# Altium footprint library COMM_SCHPCB.PcbLib: 136 footprints (part 4 of 9)
Each footprint in its own frame and in the unit in brackets; x right, y up, seen from the top. Pads: shape width x height; smd on the part's side, far side on the other; paste and mask are expansions set on the pad; w line width, h text height; cw(c..) or ccw(c..) is an arc to the next point about the centre after c.
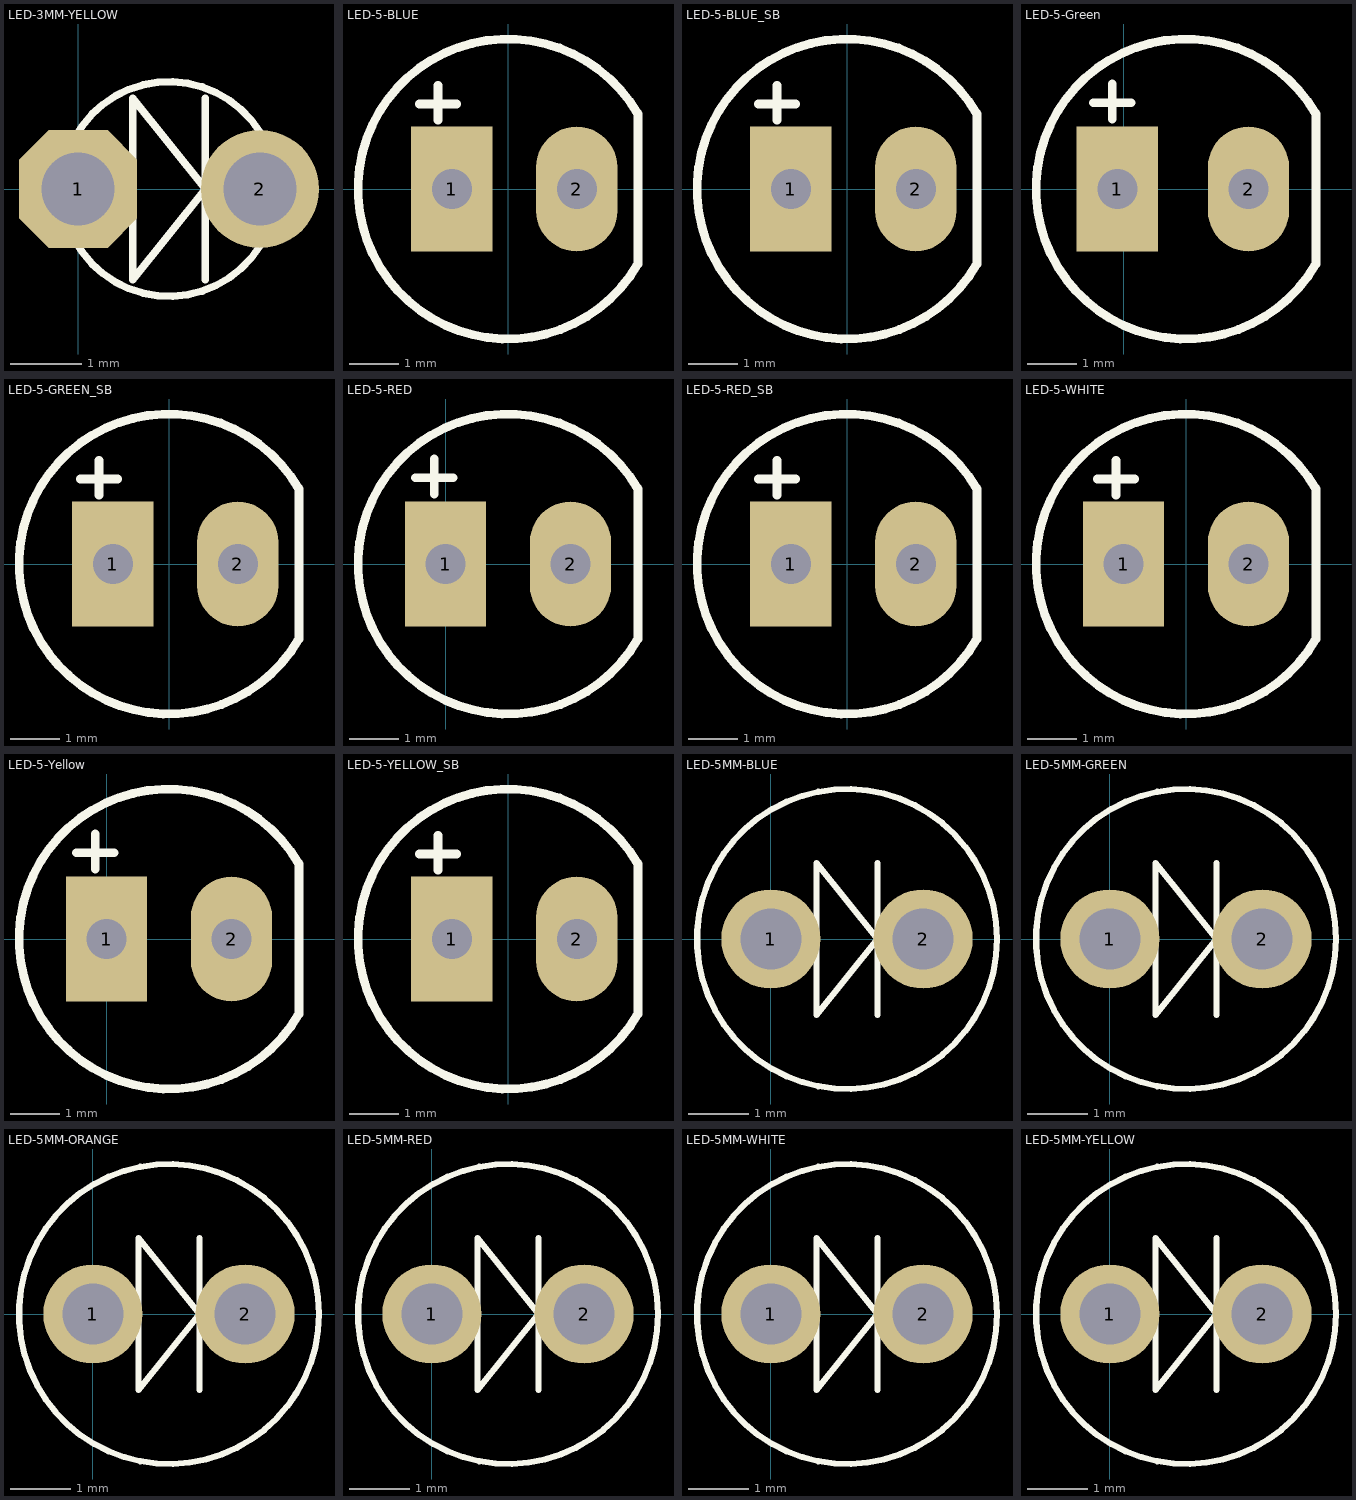
[diagram p3: the footprints below, top view; thin cyan lines are the x and y axes]

## LED-3MM-YELLOW [mil]
pads (2):
  oct 65x65 hole 40: 1(0,0)
  round 65 hole 40: 2(100,0)
Top Overlay:
  circle w4: c50,0 r59.06
  lines w4: 70,-50 70,0 ; 70,50 70,0 ; 70,0 30,-50 30,50 70,0
3D body "User Library-LED-D3Y.step": height 181.1, standoff -255.91, extent -27.18,-77.48 117.18,80

## LED-5-BLUE [mil] "LED 2 PIN, 5 ly , Only colour, pin to pin 110mil"
height 300
pads (2):
  rect 65x100 hole 32: 1(-45,0)
  oval 65x100 hole 32: 2(55,0)
Top Overlay:
  lines w7: -71,68 -41,68 ; -56,55 -56,83 ; 103.51,60.71 ccw(c0,0) 103.94,-59.97 ; 104,-59 104,60
3D body "User Library-LEDd5B.STEP": height 339.18, standoff -243.49, extent -113.31,-120.49 100.08,116.5

## LED-5-BLUE_SB [mil] "LED SIEU SANG, LUN 5MM"
height 300
pads (2):
  rect 65x100 hole 32: 1(-45,0)
  oval 65x100 hole 32: 2(55,0)
Top Overlay:
  lines w7: -71,68 -41,68 ; -56,55 -56,83 ; 103.51,60.71 ccw(c0,0) 103.94,-59.97 ; 104,-59 104,60
3D body "Blue straw hat led.step": height 216.54, standoff -531.5, extent -113.69,-114.17 102.36,114.17

## LED-5-Green [mil] "LED 2 PIN, 5 ly , Only colour,pin to pin 100mil"
height 300
pads (2):
  rect 65x100 hole 32: 1(-5,0)
  oval 65x100 hole 32: 2(100,0)
Top Overlay:
  lines w7: -24,69 6,69 ; -9,56 -9,84 ; 153.51,60.71 ccw(c50,0) 153.94,-59.97 ; 154,-59 154,60
3D body "SW3dPS-LEDd5G.STEP": height 339.18, standoff -243.49, extent -68.69,-119.99 144.69,117

## LED-5-GREEN_SB [mil] "LED SIEU SANG, LUN 5MM"
height 300
pads (2):
  rect 65x100 hole 32: 1(-45,0)
  oval 65x100 hole 32: 2(55,0)
Top Overlay:
  lines w7: -71,68 -41,68 ; -56,55 -56,83 ; 103.51,60.71 ccw(c0,0) 103.94,-59.97 ; 104,-59 104,60
3D body "Green straw hat led.step": height 216.54, standoff -531.5, extent -113.69,-114.17 102.36,114.17

## LED-5-RED [mil] "LED 2 PIN, 5 ly , Only colour,pin to pin 100mil"
height 300
pads (2):
  rect 65x100 hole 32: 1(0,0)
  oval 65x100 hole 32: 2(100,0)
Top Overlay:
  lines w7: -24,69 6,69 ; -9,56 -9,84 ; 153.51,60.71 ccw(c50,0) 153.94,-59.97 ; 154,-59 154,60
3D body "SW3dPS-LEDd5R.STEP": height 339.18, standoff -243.49, extent -64.69,-119 148.69,117.99

## LED-5-RED_SB [mil] "LED SIEU SANG, LUN 5MM"
height 300
pads (2):
  rect 65x100 hole 32: 1(-45,0)
  oval 65x100 hole 32: 2(55,0)
Top Overlay:
  lines w7: -71,68 -41,68 ; -56,55 -56,83 ; 103.51,60.71 ccw(c0,0) 103.94,-59.97 ; 104,-59 104,60
3D body "Red straw hat led.step": height 216.54, standoff -531.5, extent -113.69,-114.17 102.36,114.17

## LED-5-WHITE [mil] "LED 2 PIN, 5 ly , Only colour, pin to pin 110mil"
height 300
pads (2):
  rect 65x100 hole 32: 1(-50,0)
  oval 65x100 hole 32: 2(50,0)
Top Overlay:
  lines w7: -71,68 -41,68 ; -56,55 -56,83 ; 103.51,60.71 ccw(c0,0) 103.94,-59.97 ; 104,-59 104,60
3D body "5 mm yellow led.step": height 340.05, standoff -767.12, extent -124,-125 120.88,120.26

## LED-5-Yellow [mil] "LED 2 PIN, 5 ly , Only colour,pin to pin 100mil"
height 300
pads (2):
  rect 65x100 hole 32: 1(0,0)
  oval 65x100 hole 32: 2(100,0)
Top Overlay:
  lines w7: -24,69 6,69 ; -9,56 -9,84 ; 153.51,60.71 ccw(c50,0) 153.94,-59.97 ; 154,-59 154,60
3D body "SW3dPS-LEDd5O.STEP": height 339.18, standoff -243.49, extent -66.69,-121.99 146.69,115

## LED-5-YELLOW_SB [mil] "LED SIEU SANG, LUN 5MM"
height 300
pads (2):
  rect 65x100 hole 32: 1(-45,0)
  oval 65x100 hole 32: 2(55,0)
Top Overlay:
  lines w7: -71,68 -41,68 ; -56,55 -56,83 ; 103.51,60.71 ccw(c0,0) 103.94,-59.97 ; 104,-59 104,60
3D body "Yellow straw hat led.step": height 216.54, standoff -531.5, extent -113.69,-114.17 102.36,114.17

## LED-5MM-BLUE [mil]
pads (2):
  round 65 hole 40: 1(0,0) 2(100,0)
Top Overlay:
  circle w4: c50,0 r98.43
  lines w4: 70,-50 70,0 ; 70,50 70,0 ; 70,0 30,50 30,-50 70,0
3D body: height 50, standoff -120, extent 87,-12.5 112,12.5
3D body: height 150, standoff 50, extent -13,-13 30,12
3D body: height 150, standoff 50, extent 69,-12.5 112,12.5
3D body: height 160, standoff 150, extent 35,-33 90,33
3D body: height 60, standoff -120, extent -12.5,-13 12.5,12
3D body: height 160, standoff 150, extent 21,-7 30,7
3D body: height 170, standoff 160, extent 45,-5 55,5
3D body: height 270, standoff 70, extent -49,-100 150.21,99.61
3D body: height 370, standoff 170, extent -49,-100 149.96,99.15
3D body: height 110, standoff 70, extent -54.17,-105 155,104.59

## LED-5MM-GREEN [mil]
pads (2):
  round 65 hole 40: 1(0,0) 2(100,0)
Top Overlay:
  circle w4: c50,0 r98.43
  lines w4: 70,-50 70,0 ; 70,50 70,0 ; 70,0 30,50 30,-50 70,0
3D body: height 50, standoff -120, extent 87,-12.5 112,12.5
3D body: height 150, standoff 50, extent -13,-13 30,12
3D body: height 150, standoff 50, extent 69,-12.5 112,12.5
3D body: height 160, standoff 150, extent 35,-33 90,33
3D body: height 60, standoff -120, extent -12.5,-13 12.5,12
3D body: height 160, standoff 150, extent 21,-7 30,7
3D body: height 170, standoff 160, extent 45,-5 55,5
3D body: height 270, standoff 70, extent -49,-100 150.21,99.61
3D body: height 370, standoff 170, extent -49,-100 149.96,99.15
3D body: height 110, standoff 70, extent -54.17,-105 155,104.59

## LED-5MM-ORANGE [mil]
pads (2):
  round 65 hole 40: 1(0,0) 2(100,0)
Top Overlay:
  circle w4: c50,0 r98.43
  lines w4: 70,-50 70,0 ; 70,50 70,0 ; 70,0 30,50 30,-50 70,0
3D body: height 50, standoff -120, extent 87,-12.5 112,12.5
3D body: height 150, standoff 50, extent -13,-13 30,12
3D body: height 150, standoff 50, extent 69,-12.5 112,12.5
3D body: height 160, standoff 150, extent 35,-33 90,33
3D body: height 60, standoff -120, extent -12.5,-13 12.5,12
3D body: height 160, standoff 150, extent 21,-7 30,7
3D body: height 170, standoff 160, extent 45,-5 55,5
3D body: height 270, standoff 70, extent -49,-100 150.21,99.61
3D body: height 370, standoff 170, extent -49,-100 149.96,99.15
3D body: height 110, standoff 70, extent -54.17,-105 155,104.59

## LED-5MM-RED [mil]
pads (2):
  round 65 hole 40: 1(0,0) 2(100,0)
Top Overlay:
  circle w4: c50,0 r98.43
  lines w4: 70,-50 70,0 ; 70,50 70,0 ; 70,0 30,-50 30,50 70,0
3D body: height 110, standoff 70, extent -54.17,-105 155,104.59
3D body: height 370, standoff 170, extent -49,-100 149.96,99.15
3D body: height 270, standoff 70, extent -49,-100 150.21,99.61
3D body: height 170, standoff 160, extent 45,-5 55,5
3D body: height 160, standoff 150, extent 21,-7 30,7
3D body: height 60, standoff -120, extent -12.5,-13 12.5,12
3D body: height 160, standoff 150, extent 35,-33 90,33
3D body: height 150, standoff 50, extent 69,-12.5 112,12.5
3D body: height 150, standoff 50, extent -13,-13 30,12
3D body: height 50, standoff -120, extent 87,-12.5 112,12.5

## LED-5MM-WHITE [mil]
pads (2):
  round 65 hole 40: 1(0,0) 2(100,0)
Top Overlay:
  circle w4: c50,0 r98.43
  lines w4: 70,-50 70,0 ; 70,50 70,0 ; 70,0 30,50 30,-50 70,0
3D body: height 50, standoff -120, extent 87,-12.5 112,12.5
3D body: height 150, standoff 50, extent -13,-13 30,12
3D body: height 150, standoff 50, extent 69,-12.5 112,12.5
3D body: height 160, standoff 150, extent 35,-33 90,33
3D body: height 60, standoff -120, extent -12.5,-13 12.5,12
3D body: height 160, standoff 150, extent 21,-7 30,7
3D body: height 170, standoff 160, extent 45,-5 55,5
3D body: height 270, standoff 70, extent -49,-100 150.21,99.61
3D body: height 370, standoff 170, extent -49,-100 149.96,99.15
3D body: height 110, standoff 70, extent -54.17,-105 155,104.59

## LED-5MM-YELLOW [mil]
pads (2):
  round 65 hole 40: 1(0,0) 2(100,0)
Top Overlay:
  circle w4: c50,0 r98.43
  lines w4: 70,-50 70,0 ; 70,50 70,0 ; 70,0 30,-50 30,50 70,0
3D body: height 110, standoff 70, extent -54.17,-105 155,104.59
3D body: height 370, standoff 170, extent -49,-100 149.96,99.15
3D body: height 270, standoff 70, extent -49,-100 150.21,99.61
3D body: height 170, standoff 160, extent 45,-5 55,5
3D body: height 160, standoff 150, extent 21,-7 30,7
3D body: height 60, standoff -120, extent -12.5,-13 12.5,12
3D body: height 160, standoff 150, extent 35,-33 90,33
3D body: height 150, standoff 50, extent 69,-12.5 112,12.5
3D body: height 150, standoff 50, extent -13,-13 30,12
3D body: height 50, standoff -120, extent 87,-12.5 112,12.5